# EAGLE library part SWITCH-SSSS8820501 (library Deegou_Discrete)
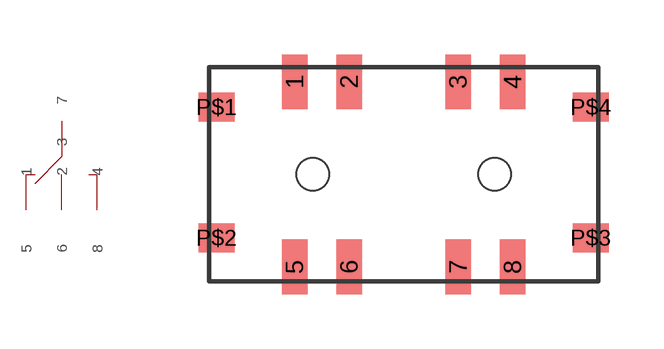
[diagram p7: symbol with the pads of SSSS8820501; footprint SSSS8820501]

Designator prefix SW

## SWITCH-SSSS8820501  [SSSS8820501]
1  1
2  2
3  3
4  4
5  5
6  6
7  7
8  8

## Footprint SSSS8820501 (pad centres in mm)
smd 0.7 x 1.5: 1 -3,2.55; 2 -1.5,2.55; 3 1.5,2.55; 4 3,2.55; 5 -3,-2.55; 6 -1.5,-2.55; 7 1.5,-2.55; 8 3,-2.55
smd 1 x 0.8: P$1 -5.15,1.85; P$2 -5.15,-1.75; P$3 5.15,-1.75; P$4 5.15,1.85
hole 0.9 at -2.5,0
hole 0.9 at 2.5,0